# EAGLE library part 854673 (library sawtek)
70 MHz Bandpass filter 26 MHz Bandwidth Low insertion loss family Insertion loss @ Fo= 17 dB typ / 17.5 dB max 1 dB Bandwidth 25.25 MHz 3 dB Bandwidth 26.4 MHz Bandpass Ripple 0.8 dB Impedance matching +------------ L1 ----- [SAW]---- L2 ------ | src 50R | GND L1= 120 nH L2= 120 nH
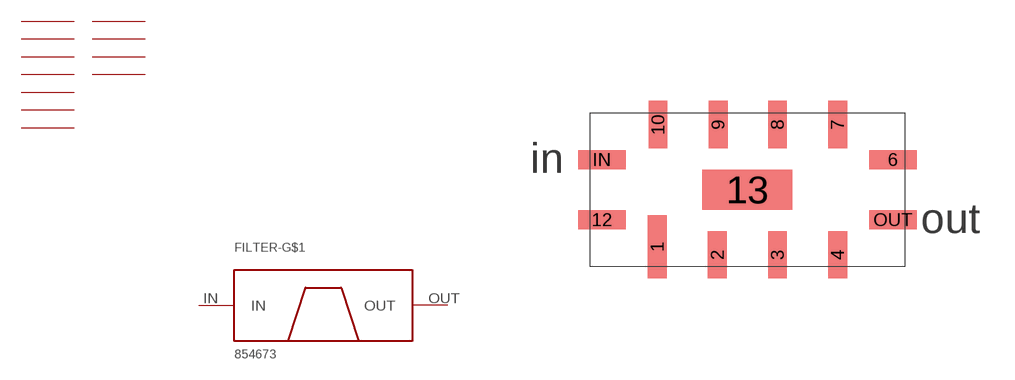
[diagram p17: symbol with the pads of SMP-53A/B; footprint SMP-53A/B]

Designator prefix FILTER-; gates G$1=BP G$2=GND G$3=GND G$4=GND G$5=GND G$6=GND G$7=GND G$8=GND G$9=GND G$10=GND G$11=GND G$12=GND

## 854673  [SMP-53A/B]
1  G$2:GND  pwr
2  G$3:GND  pwr
3  G$4:GND  pwr
4  G$5:GND  pwr
6  G$6:GND  pwr
7  G$7:GND  pwr
8  G$8:GND  pwr
9  G$9:GND  pwr
10  G$10:GND  pwr
12  G$11:GND  pwr
13  G$12:GND  pwr
IN  G$1:IN
OUT  G$1:OUT

## Footprint SMP-53A/B (pad centres in mm)
Surface mount package http://www.triquint.com/company/divisions/sawtek/docs/packages/smp53.pdf
smd 0.8 x 2.68: 1 2.84,-5.66
smd 0.8 x 2: 2 5.38,-6; 3 7.92,-6; 4 10.46,-6; 7 10.46,-0.5; 8 7.92,-0.5; 9 5.41,-0.5; 10 2.87,-0.5
smd 2 x 0.8: 6 12.8,-1.98; 12 0.5,-4.52; IN 0.5,-1.98; OUT 12.8,-4.52
smd 3.8 x 1.68: 13 6.65,-3.25